# Altium schematic symbol library IR2112.SchLib: 1 symbol
Pins are listed as number, name and electrical type; pins without a type are passive.

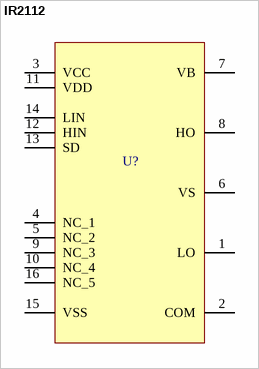
[diagram p0: symbol IR2112]

## IR2112
designator U?
Half-Bridge Gate Driver IC Non-Inverting 16-SOIC; MP: IR2110S; MF: Infineon; SnapEDA_Link: https://www.snapeda.com/parts/IR2110S/Infineon+Technologies/view-part/?ref=snap; Availability: In Stock; Purchase-URL: https://pricing.snapeda.com/search/part/IR2110S/?ref=eda; Price: None; Value: *; Check_prices: https://www.snapeda.com/parts/IR2110S/Infineon+Technologies/view-part/?ref=eda; Package: SOIC-16 International Rectifier
footprint SOIC127P1032X265-16N
pins: 1 LO, 2 COM, 3 VCC (power), 4 NC_1, 5 NC_2, 6 VS, 7 VB, 8 HO, 9 NC_3, 10 NC_4, 11 VDD (power), 12 HIN, 13 SD, 14 LIN, 15 VSS, 16 NC_5